# EAGLE library part TPS2042AD (library balto)
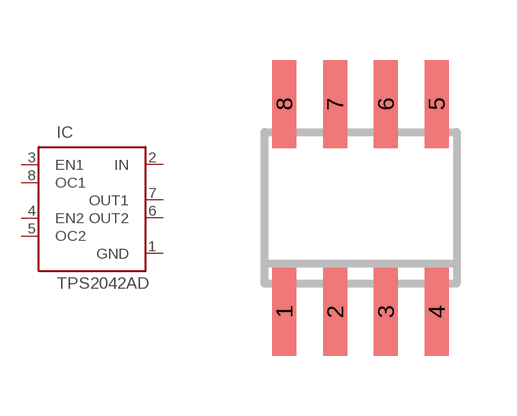
[diagram p10: symbol with the pads of SOIC8; footprint SOIC8]

Designator prefix IC

## TPS2042AD  [SOIC8]
1  GND  pas
2  IN  pas
3  EN1  pas
4  EN2  pas
5  OC2  pas
6  OUT2  pas
7  OUT1  pas
8  OC1  pas

## Footprint SOIC8 (pad centres in mm)
Small Outline IC
smd 0.6 x 2.2: 1 -1.905,-2.6; 2 -0.635,-2.6; 3 0.635,-2.6; 4 1.905,-2.6; 5 1.905,2.6; 6 0.635,2.6; 7 -0.635,2.6; 8 -1.905,2.6